# Altium schematic symbol library LTST-C190CKT.SchLib: 1 symbol
Pins are listed as number, name and electrical type; pins without a type are passive.

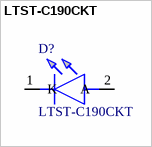
[diagram p0: symbol LTST-C190CKT]

## LTST-C190CKT
designator D?
LED,SMD,0603,Red,10mcd,130deg Lite-On LTST-C190CKT Red LED, 638 nm 1608 (0603), Rectangle Lens SMD package; Geometry.Height: 0.9mm; Mouser Part Number: 859-LTST-C190CKT; Manufacturer_Name: Lite-On; Manufacturer_Part_Number: LTST-C190CKT; Datasheet Link: https://componentsearchengine.com/Datasheets/1/LTST-C190CKT.pdf
footprint LEDC1608X90N
pins: 1 K, 2 A